# Altium integrated library Linear Technology Power Management Power Control.IntLib: 661 symbols (part 39 of 43)
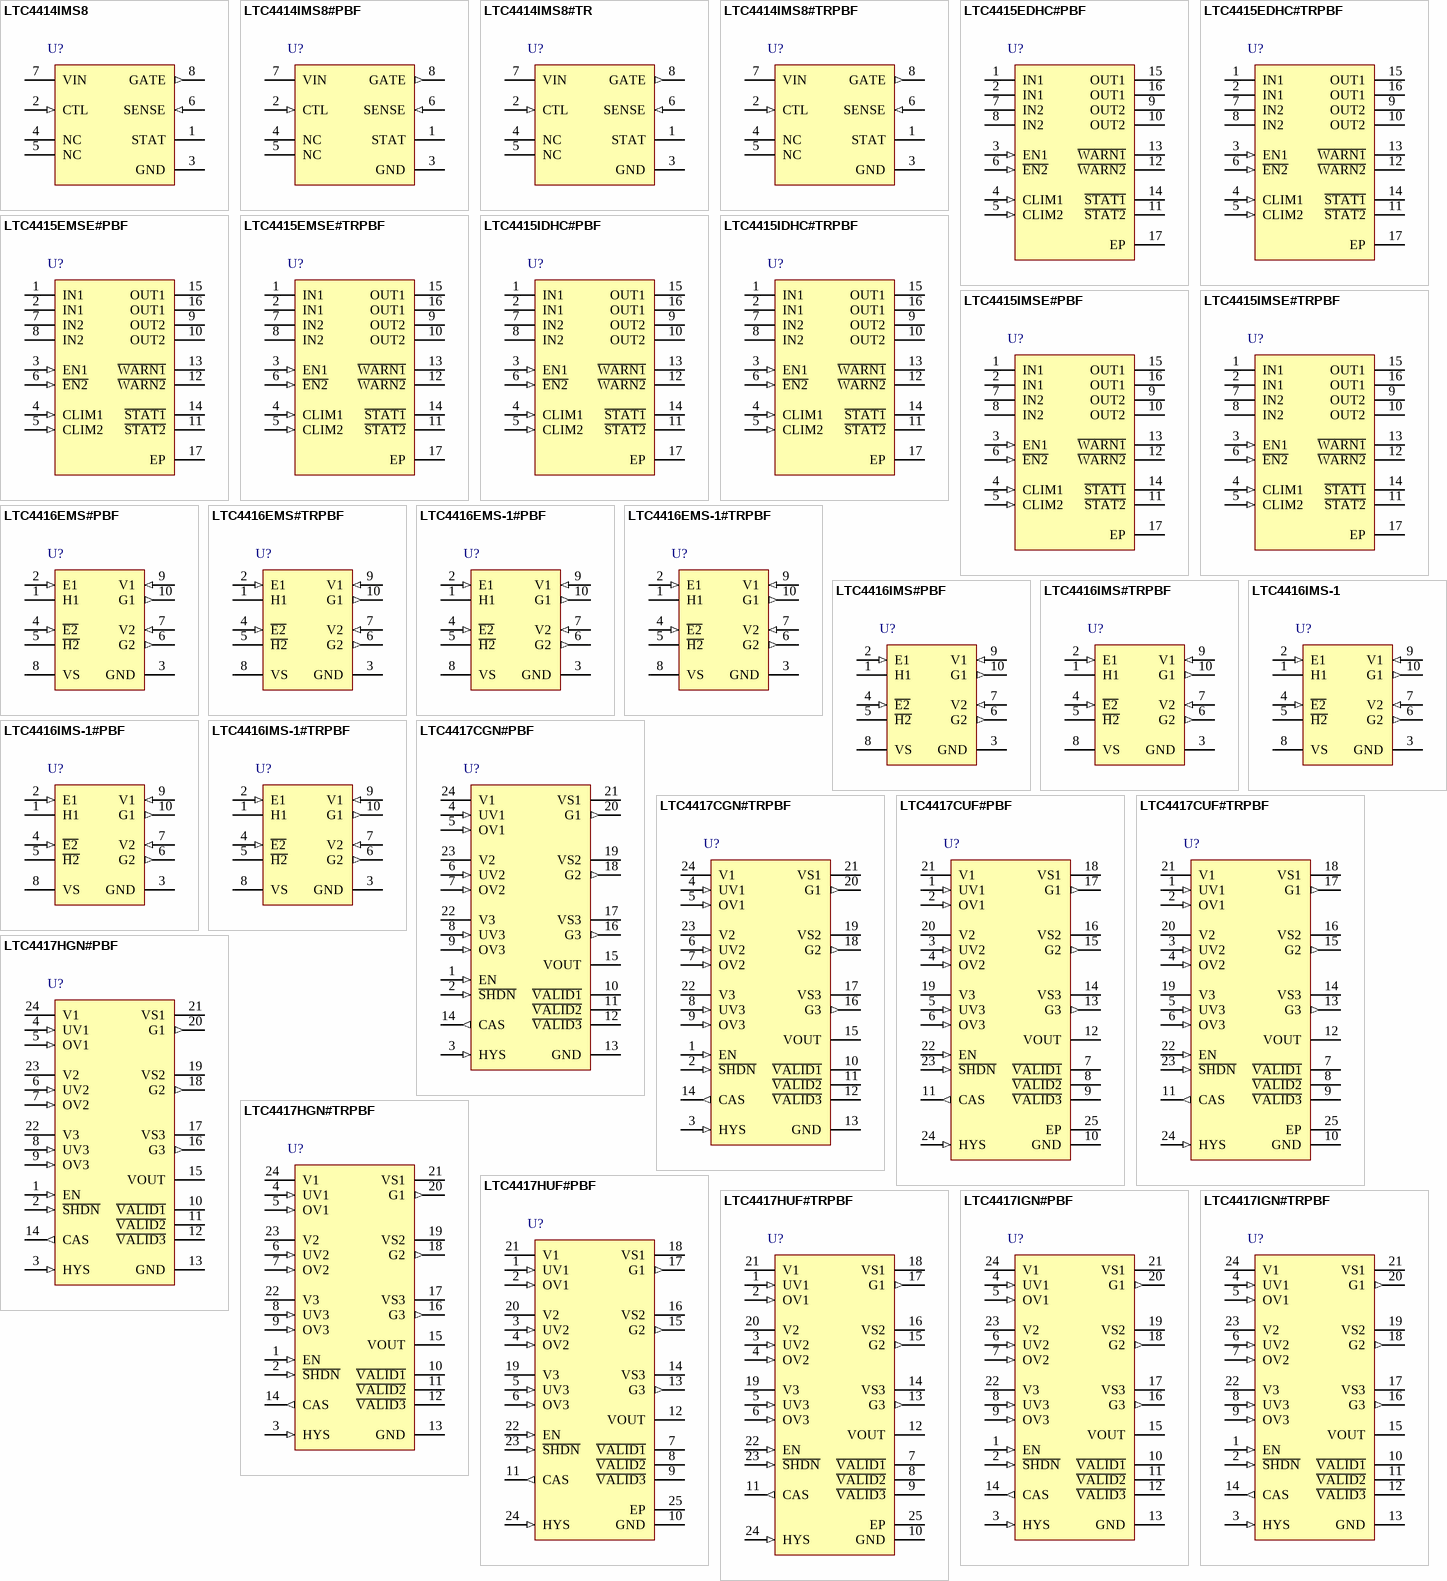
[diagram p57: symbols LTC4414IMS8 to LTC4417IGN#TRPBF]

## LTC4417HUF#TRPBF
designator U?
Prioritized PowerPath Controller, 2.5 to 36 V Vin, 24-pin QFN (UF-24), -40 to 125 degC, Pb-Free, Tape and Reel; Manufacturer: Linear Technology; PartNumber: LTC4417HUF#TRPBF; Ideal Diode: Triple, External, P-Channel; PackageVersion: Rev. B, 02/2012; PackageReference: UF24; PackageDescription: 24-Pin Plastic QFN, Body 4 x 4 mm, Pitch 0.5 mm; Supplier 1: Digi-Key; Supplier Part Number 1: LTC4417HUF#TRPBF-ND; Supplier 2: Newark; Supplier Part Number 2: 53W0559; Packing: Tape and Reel; RoHS: TRUE; Mounting Technology: Surface Mount; Code_JEDEC: MO-220; ComponentLink1Description: Manufacturer URL; ComponentLink1URL: http://www.linear.com/; ComponentLink2Description: Datasheet; ComponentLink2URL: http://cds.linear.com/docs/en/datasheet/4417f.pdf; ComponentLink3Description: Package Specification; ComponentLink3URL: http://cds.linear.com/docs/en/packaging/%28UF24%29%20QFN%2005-08-1697%20Rev%20B.pdf
footprint LT-UF-24_N (QFN, 24-Leads, Body 4.1x4.1mm, Pitch 0.5mm, Thermal Pad 2.45x2.45mm, IPC Medium Density)
footprint LT-UF-24_L (QFN, 24-Leads, Body 4.1x4.1mm, Pitch 0.5mm, Thermal Pad 2.45x2.45mm, IPC High Density)
footprint LT-UF-24_M (QFN, 24-Leads, Body 4.1x4.1mm, Pitch 0.5mm, Thermal Pad 2.45x2.45mm, IPC Low Density)
pins: 1 UV1 (in) "Undervoltage Comparator Inputs. Falling voltages below 1V signal an undervoltage event, invalidating the respective input supply channel. Connect UV1, UV2 and UV3 through a resistive divider between the respective V1, V2 and (See Datasheet)", 2 OV1 (in) "Overvoltage Comparator Inputs. Rising voltages above 1V signal an over voltage event, invalidating the respective input supply channel. Connect OV1, OV2 and OV3 to an external resistive divider from its respective V1, V2 and (See Datasheet)", 3 UV2 (in) "Undervoltage Comparator Inputs. Falling voltages below 1V signal an undervoltage event, invalidating the respective input supply channel. Connect UV1, UV2 and UV3 through a resistive divider between the respective V1, V2 and (See Datasheet)", 4 OV2 (in) "Overvoltage Comparator Inputs. Rising voltages above 1V signal an over voltage event, invalidating the respective input supply channel. Connect OV1, OV2 and OV3 to an external resistive divider from its respective V1, V2 and (See Datasheet)", 5 UV3 (in) "Undervoltage Comparator Inputs. Falling voltages below 1V signal an undervoltage event, invalidating the respective input supply channel. Connect UV1, UV2 and UV3 through a resistive divider between the respective V1, V2 and (See Datasheet)", 6 OV3 (in) "Overvoltage Comparator Inputs. Rising voltages above 1V signal an over voltage event, invalidating the respective input supply channel. Connect OV1, OV2 and OV3 to an external resistive divider from its respective V1, V2 and (See Datasheet)", 7 ~{VALID1} (oc) "Valid Channel Indicator Outputs. V\A\L\I\D\1\, V\A\L\I\D\2\ and V\A\L\I\D\3\ are high voltage open drain outputs that pull low when the respective V1, V2 and V3 are within the OV/UV window for at least 256ms and release when (See Datasheet)", 8 ~{VALID2} (oc) "Valid Channel Indicator Outputs. V\A\L\I\D\1\, V\A\L\I\D\2\ and V\A\L\I\D\3\ are high voltage open drain outputs that pull low when the respective V1, V2 and V3 are within the OV/UV window for at least 256ms and release when (See Datasheet)", 9 ~{VALID3} (oc) "Valid Channel Indicator Outputs. V\A\L\I\D\1\, V\A\L\I\D\2\ and V\A\L\I\D\3\ are high voltage open drain outputs that pull low when the respective V1, V2 and V3 are within the OV/UV window for at least 256ms and release when (See Datasheet)", 10 GND (power) "Device Ground.", 11 CAS (out) "Cascade Output. Digital output used for cascading multiple LTC4417s. Connect CAS to EN of another LTC4417 to increase the number of multiplexed input supplies. CAS is pulled up to the internal VLDO voltage by an internal (See Datasheet)", 12 VOUT (power) "Output Voltage Supply and Sense. VOUT is an output voltage sense pin used to prevent any input supply from connecting to the output if the output voltage is not at least 120mV below the input supply voltage. During normal (See Datasheet)", 13 G3 (out) "P-Channel MOSFET Gate Drive Outputs. G1, G2 and G3 are used to control external back-to-back Pchannel MOSFETs. When driven low, G1, G2 and G3 are clamped 6V below their corresponding VS1, VS2 and VS3. Connect G1, G2 and G3 (See Datasheet)", 14 VS3 (power) "External P-Channel MOSFET Common Source Connection. VS1, VS2 and VS3 supply the higher voltage of V1, V2 and V3 or VOUT to the gate drivers. Connect VS1, VS2 and VS3 to the respective common source connection of the (See Datasheet)", 15 G2 (out) "P-Channel MOSFET Gate Drive Outputs. G1, G2 and G3 are used to control external back-to-back Pchannel MOSFETs. When driven low, G1, G2 and G3 are clamped 6V below their corresponding VS1, VS2 and VS3. Connect G1, G2 and G3 (See Datasheet)", 16 VS2 (power) "External P-Channel MOSFET Common Source Connection. VS1, VS2 and VS3 supply the higher voltage of V1, V2 and V3 or VOUT to the gate drivers. Connect VS1, VS2 and VS3 to the respective common source connection of the (See Datasheet)", 17 G1 (out) "P-Channel MOSFET Gate Drive Outputs. G1, G2 and G3 are used to control external back-to-back Pchannel MOSFETs. When driven low, G1, G2 and G3 are clamped 6V below their corresponding VS1, VS2 and VS3. Connect G1, G2 and G3 (See Datasheet)", 18 VS1 (power) "External P-Channel MOSFET Common Source Connection. VS1, VS2 and VS3 supply the higher voltage of V1, V2 and V3 or VOUT to the gate drivers. Connect VS1, VS2 and VS3 to the respective common source connection of the (See Datasheet)", 19 V3 (power) "Third Priority Input Supply. When V3 is within its OV/UV window for 256ms, it is connected to VOUT via its external back-to-back P-channel MOSFETs only if V1 and V2 do not meet their OV/UV requirements. Connect to ground (See Datasheet)", 20 V2 (power) "Second Priority Input Supply. When V2 is within its OV/UV window for 256ms, it is connected to VOUT via its external back-to-back P-channel MOSFETs only if V1 does not meet its OV/UV requirements. Connect to ground when (See Datasheet)", 21 V1 (power) "Highest Priority Input Supply. When V1 is within its user defined OV/UV window for 256ms, it is connected to VOUT via its external back-to-back P-channel MOSFETs. Connect V1 to ground when channel is not used. See (See Datasheet)", 22 EN (in) "Channel Enable Input. EN is a high voltage input that allows the user to quickly connect and disconnect channels without resetting the OV/UV timers. When below 1V, all external back-to-back P-channel MOSFETs are driven off (See Datasheet)", 23 ~{SHDN} (in) "Shutdown Input. Driving S\H\D\N\ below 0.8V turns off all external back-to-back P-channel MOSFET devices, forces the LTC4417 into a low current state, and resets the 256ms timers used to validate V1, V2 and V3. Driving (See Datasheet)", 24 HYS (in) "OV/UV Comparator Hysteresis Input. Connecting HYS to ground sets a fixed 30mV hysteresis for the OV and UV comparators. Connecting a resistor, RHYS, between HYS and ground disables the internal 30mV hysteresis and sets a (See Datasheet)", 25 EP (power) "Exposed pad may be left open or connected to device ground."

## LTC4417IGN#PBF
designator U?
Prioritized PowerPath Controller, 2.5 to 36 V Vin, 24-pin SOP (GN-24), -40 to 85 degC, Pb-Free; Manufacturer: Linear Technology; PartNumber: LTC4417IGN#PBF; Ideal Diode: Triple, External, P-Channel; PackageVersion: Rev. B, 03/2012; PackageReference: GN24; PackageDescription: 24-Pin Plastic SSOP , Body 8.5 x 3.9 mm, Pitch 0.635 mm; Supplier 1: Digi-Key; Supplier Part Number 1: LTC4417IGN#PBF-ND; Supplier 2: Newark; Supplier Part Number 2: 53W0560; RoHS: TRUE; Mounting Technology: Surface Mount; ComponentLink1Description: Manufacturer URL; ComponentLink1URL: http://www.linear.com/; ComponentLink2Description: Datasheet; ComponentLink2URL: http://cds.linear.com/docs/en/datasheet/4417f.pdf; ComponentLink3Description: Package Specification; ComponentLink3URL: http://cds.linear.com/docs/en/packaging/05081641_B_GN24.pdf
footprint LT-GN-24_N (SOP, 24-Leads, Body 8.7x4mm, Pitch 0.635mm, IPC Medium Density)
footprint LT-GN-24_L (SOP, 24-Leads, Body 8.7x4mm, Pitch 0.635mm, IPC High Density)
footprint LT-GN-24_M (SOP, 24-Leads, Body 8.7x4mm, Pitch 0.635mm, IPC Low Density)
pins: 1 EN (in) "Channel Enable Input. EN is a high voltage input that allows the user to quickly connect and disconnect channels without resetting the OV/UV timers. When below 1V, all external back-to-back P-channel MOSFETs are driven off (See Datasheet)", 2 ~{SHDN} (in) "Shutdown Input. Driving S\H\D\N\ below 0.8V turns off all external back-to-back P-channel MOSFET devices, forces the LTC4417 into a low current state, and resets the 256ms timers used to validate V1, V2 and V3. Driving (See Datasheet)", 3 HYS (in) "OV/UV Comparator Hysteresis Input. Connecting HYS to ground sets a fixed 30mV hysteresis for the OV and UV comparators. Connecting a resistor, RHYS, between HYS and ground disables the internal 30mV hysteresis and sets a (See Datasheet)", 4 UV1 (in) "Undervoltage Comparator Inputs. Falling voltages below 1V signal an undervoltage event, invalidating the respective input supply channel. Connect UV1, UV2 and UV3 through a resistive divider between the respective V1, V2 and (See Datasheet)", 5 OV1 (in) "Overvoltage Comparator Inputs. Rising voltages above 1V signal an over voltage event, invalidating the respective input supply channel. Connect OV1, OV2 and OV3 to an external resistive divider from its respective V1, V2 and (See Datasheet)", 6 UV2 (in) "Undervoltage Comparator Inputs. Falling voltages below 1V signal an undervoltage event, invalidating the respective input supply channel. Connect UV1, UV2 and UV3 through a resistive divider between the respective V1, V2 and (See Datasheet)", 7 OV2 (in) "Overvoltage Comparator Inputs. Rising voltages above 1V signal an over voltage event, invalidating the respective input supply channel. Connect OV1, OV2 and OV3 to an external resistive divider from its respective V1, V2 and (See Datasheet)", 8 UV3 (in) "Undervoltage Comparator Inputs. Falling voltages below 1V signal an undervoltage event, invalidating the respective input supply channel. Connect UV1, UV2 and UV3 through a resistive divider between the respective V1, V2 and (See Datasheet)", 9 OV3 (in) "Overvoltage Comparator Inputs. Rising voltages above 1V signal an over voltage event, invalidating the respective input supply channel. Connect OV1, OV2 and OV3 to an external resistive divider from its respective V1, V2 and (See Datasheet)", 10 ~{VALID1} (oc) "Valid Channel Indicator Outputs. VA\L\I\D\1\, V\A\L\I\D\2\ and V\A\L\I\D\3\ are high voltage open drain outputs that pull low when the respective V1, V2 and V3 are within the OV/UV window for at least 256ms and release when (See Datasheet)", 11 ~{VALID2} (oc) "Valid Channel Indicator Outputs. V\A\L\I\D\1\, V\A\L\I\D\2\ and V\A\L\I\D\3\ are high voltage open drain outputs that pull low when the respective V1, V2 and V3 are within the OV/UV window for at least 256ms and release when (See Datasheet)", 12 ~{VALID3} (oc) "Valid Channel Indicator Outputs. V\A\L\I\D\1\, V\A\L\I\D\2\ and V\A\L\I\D\3\ are high voltage open drain outputs that pull low when the respective V1, V2 and V3 are within the OV/UV window for at least 256ms and release when (See Datasheet)", 13 GND (power) "Device Ground.", 14 CAS (out) "Cascade Output. Digital output used for cascading multiple LTC4417s. Connect CAS to EN of another LTC4417 to increase the number of multiplexed input supplies. CAS is pulled up to the internal VLDO voltage by an internal (See Datasheet)", 15 VOUT (power) "Output Voltage Supply and Sense. VOUT is an output voltage sense pin used to prevent any input supply from connecting to the output if the output voltage is not at least 120mV below the input supply voltage. During normal (See Datasheet)", 16 G3 (out) "P-Channel MOSFET Gate Drive Outputs. G1, G2 and G3 are used to control external back-to-back Pchannel MOSFETs. When driven low, G1, G2 and G3 are clamped 6V below their corresponding VS1, VS2 and VS3. Connect G1, G2 and G3 (See Datasheet)", 17 VS3 (power) "External P-Channel MOSFET Common Source Connection. VS1, VS2 and VS3 supply the higher voltage of V1, V2 and V3 or VOUT to the gate drivers. Connect VS1, VS2 and VS3 to the respective common source connection of the (See Datasheet)", 18 G2 (out) "P-Channel MOSFET Gate Drive Outputs. G1, G2 and G3 are used to control external back-to-back Pchannel MOSFETs. When driven low, G1, G2 and G3 are clamped 6V below their corresponding VS1, VS2 and VS3. Connect G1, G2 and G3 (See Datasheet)", 19 VS2 (power) "External P-Channel MOSFET Common Source Connection. VS1, VS2 and VS3 supply the higher voltage of V1, V2 and V3 or VOUT to the gate drivers. Connect VS1, VS2 and VS3 to the respective common source connection of the (See Datasheet)", 20 G1 (out) "P-Channel MOSFET Gate Drive Outputs. G1, G2 and G3 are used to control external back-to-back Pchannel MOSFETs. When driven low, G1, G2 and G3 are clamped 6V below their corresponding VS1, VS2 and VS3. Connect G1, G2 and G3 (See Datasheet)", 21 VS1 (power) "External P-Channel MOSFET Common Source Connection. VS1, VS2 and VS3 supply the higher voltage of V1, V2 and V3 or VOUT to the gate drivers. Connect VS1, VS2 and VS3 to the respective common source connection of the (See Datasheet)", 22 V3 (power) "Third Priority Input Supply. When V3 is within its OV/UV window for 256ms, it is connected to VOUT via its external back-to-back P-channel MOSFETs only if V1 and V2 do not meet their OV/UV requirements. Connect to ground (See Datasheet)", 23 V2 (power) "Second Priority Input Supply. When V2 is within its OV/UV window for 256ms, it is connected to VOUT via its external back-to-back P-channel MOSFETs only if V1 does not meet its OV/UV requirements. Connect to ground when (See Datasheet)", 24 V1 (power) "Highest Priority Input Supply. When V1 is within its user defined OV/UV window for 256ms, it is connected to VOUT via its external back-to-back P-channel MOSFETs. Connect V1 to ground when channel is not used. See (See Datasheet)"

## LTC4417IGN#TRPBF
designator U?
Prioritized PowerPath Controller, 2.5 to 36 V Vin, 24-pin SOP (GN-24), -40 to 85 degC, Pb-Free, Tape and Reel; Manufacturer: Linear Technology; PartNumber: LTC4417IGN#TRPBF; Ideal Diode: Triple, External, P-Channel; PackageVersion: Rev. B, 03/2012; PackageReference: GN24; PackageDescription: 24-Pin Plastic SSOP , Body 8.5 x 3.9 mm, Pitch 0.635 mm; Supplier 1: Digi-Key; Supplier Part Number 1: LTC4417IGN#TRPBF-ND; Supplier 2: Newark; Supplier Part Number 2: 53W0561; Packing: Tape and Reel; RoHS: TRUE; Mounting Technology: Surface Mount; ComponentLink1Description: Manufacturer URL; ComponentLink1URL: http://www.linear.com/; ComponentLink2Description: Datasheet; ComponentLink2URL: http://cds.linear.com/docs/en/datasheet/4417f.pdf; ComponentLink3Description: Package Specification; ComponentLink3URL: http://cds.linear.com/docs/en/packaging/05081641_B_GN24.pdf
footprint LT-GN-24_N (SOP, 24-Leads, Body 8.7x4mm, Pitch 0.635mm, IPC Medium Density)
footprint LT-GN-24_L (SOP, 24-Leads, Body 8.7x4mm, Pitch 0.635mm, IPC High Density)
footprint LT-GN-24_M (SOP, 24-Leads, Body 8.7x4mm, Pitch 0.635mm, IPC Low Density)
pins: 1 EN (in) "Channel Enable Input. EN is a high voltage input that allows the user to quickly connect and disconnect channels without resetting the OV/UV timers. When below 1V, all external back-to-back P-channel MOSFETs are driven off (See Datasheet)", 2 ~{SHDN} (in) "Shutdown Input. Driving S\H\D\N\ below 0.8V turns off all external back-to-back P-channel MOSFET devices, forces the LTC4417 into a low current state, and resets the 256ms timers used to validate V1, V2 and V3. Driving (See Datasheet)", 3 HYS (in) "OV/UV Comparator Hysteresis Input. Connecting HYS to ground sets a fixed 30mV hysteresis for the OV and UV comparators. Connecting a resistor, RHYS, between HYS and ground disables the internal 30mV hysteresis and sets a (See Datasheet)", 4 UV1 (in) "Undervoltage Comparator Inputs. Falling voltages below 1V signal an undervoltage event, invalidating the respective input supply channel. Connect UV1, UV2 and UV3 through a resistive divider between the respective V1, V2 and (See Datasheet)", 5 OV1 (in) "Overvoltage Comparator Inputs. Rising voltages above 1V signal an over voltage event, invalidating the respective input supply channel. Connect OV1, OV2 and OV3 to an external resistive divider from its respective V1, V2 and (See Datasheet)", 6 UV2 (in) "Undervoltage Comparator Inputs. Falling voltages below 1V signal an undervoltage event, invalidating the respective input supply channel. Connect UV1, UV2 and UV3 through a resistive divider between the respective V1, V2 and (See Datasheet)", 7 OV2 (in) "Overvoltage Comparator Inputs. Rising voltages above 1V signal an over voltage event, invalidating the respective input supply channel. Connect OV1, OV2 and OV3 to an external resistive divider from its respective V1, V2 and (See Datasheet)", 8 UV3 (in) "Undervoltage Comparator Inputs. Falling voltages below 1V signal an undervoltage event, invalidating the respective input supply channel. Connect UV1, UV2 and UV3 through a resistive divider between the respective V1, V2 and (See Datasheet)", 9 OV3 (in) "Overvoltage Comparator Inputs. Rising voltages above 1V signal an over voltage event, invalidating the respective input supply channel. Connect OV1, OV2 and OV3 to an external resistive divider from its respective V1, V2 and (See Datasheet)", 10 ~{VALID1} (oc) "Valid Channel Indicator Outputs. VA\L\I\D\1\, V\A\L\I\D\2\ and V\A\L\I\D\3\ are high voltage open drain outputs that pull low when the respective V1, V2 and V3 are within the OV/UV window for at least 256ms and release when (See Datasheet)", 11 ~{VALID2} (oc) "Valid Channel Indicator Outputs. V\A\L\I\D\1\, V\A\L\I\D\2\ and V\A\L\I\D\3\ are high voltage open drain outputs that pull low when the respective V1, V2 and V3 are within the OV/UV window for at least 256ms and release when (See Datasheet)", 12 ~{VALID3} (oc) "Valid Channel Indicator Outputs. V\A\L\I\D\1\, V\A\L\I\D\2\ and V\A\L\I\D\3\ are high voltage open drain outputs that pull low when the respective V1, V2 and V3 are within the OV/UV window for at least 256ms and release when (See Datasheet)", 13 GND (power) "Device Ground.", 14 CAS (out) "Cascade Output. Digital output used for cascading multiple LTC4417s. Connect CAS to EN of another LTC4417 to increase the number of multiplexed input supplies. CAS is pulled up to the internal VLDO voltage by an internal (See Datasheet)", 15 VOUT (power) "Output Voltage Supply and Sense. VOUT is an output voltage sense pin used to prevent any input supply from connecting to the output if the output voltage is not at least 120mV below the input supply voltage. During normal (See Datasheet)", 16 G3 (out) "P-Channel MOSFET Gate Drive Outputs. G1, G2 and G3 are used to control external back-to-back Pchannel MOSFETs. When driven low, G1, G2 and G3 are clamped 6V below their corresponding VS1, VS2 and VS3. Connect G1, G2 and G3 (See Datasheet)", 17 VS3 (power) "External P-Channel MOSFET Common Source Connection. VS1, VS2 and VS3 supply the higher voltage of V1, V2 and V3 or VOUT to the gate drivers. Connect VS1, VS2 and VS3 to the respective common source connection of the (See Datasheet)", 18 G2 (out) "P-Channel MOSFET Gate Drive Outputs. G1, G2 and G3 are used to control external back-to-back Pchannel MOSFETs. When driven low, G1, G2 and G3 are clamped 6V below their corresponding VS1, VS2 and VS3. Connect G1, G2 and G3 (See Datasheet)", 19 VS2 (power) "External P-Channel MOSFET Common Source Connection. VS1, VS2 and VS3 supply the higher voltage of V1, V2 and V3 or VOUT to the gate drivers. Connect VS1, VS2 and VS3 to the respective common source connection of the (See Datasheet)", 20 G1 (out) "P-Channel MOSFET Gate Drive Outputs. G1, G2 and G3 are used to control external back-to-back Pchannel MOSFETs. When driven low, G1, G2 and G3 are clamped 6V below their corresponding VS1, VS2 and VS3. Connect G1, G2 and G3 (See Datasheet)", 21 VS1 (power) "External P-Channel MOSFET Common Source Connection. VS1, VS2 and VS3 supply the higher voltage of V1, V2 and V3 or VOUT to the gate drivers. Connect VS1, VS2 and VS3 to the respective common source connection of the (See Datasheet)", 22 V3 (power) "Third Priority Input Supply. When V3 is within its OV/UV window for 256ms, it is connected to VOUT via its external back-to-back P-channel MOSFETs only if V1 and V2 do not meet their OV/UV requirements. Connect to ground (See Datasheet)", 23 V2 (power) "Second Priority Input Supply. When V2 is within its OV/UV window for 256ms, it is connected to VOUT via its external back-to-back P-channel MOSFETs only if V1 does not meet its OV/UV requirements. Connect to ground when (See Datasheet)", 24 V1 (power) "Highest Priority Input Supply. When V1 is within its user defined OV/UV window for 256ms, it is connected to VOUT via its external back-to-back P-channel MOSFETs. Connect V1 to ground when channel is not used. See (See Datasheet)"

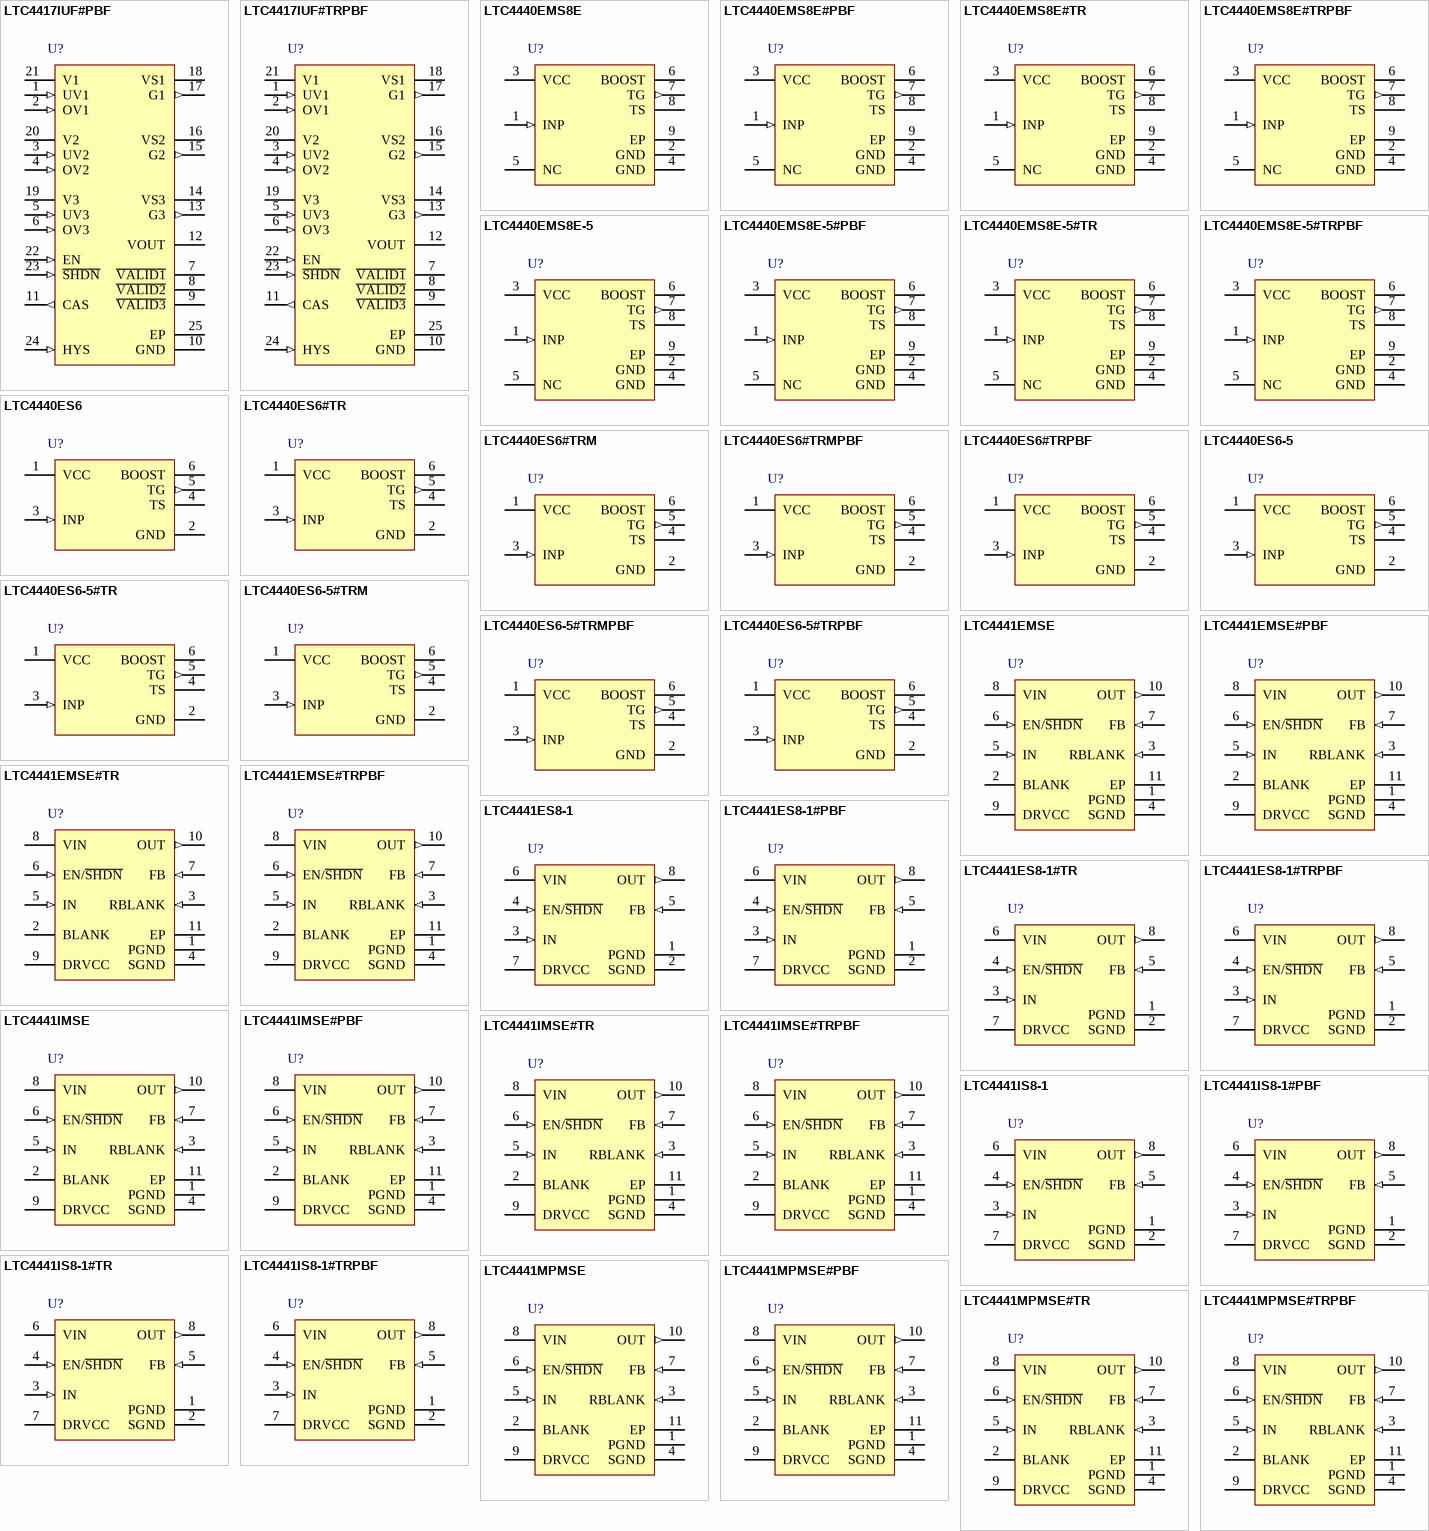
[diagram p18: symbols LTC4417IUF#PBF to LTC4441MPMSE#TRPBF]

## LTC4417IUF#PBF
designator U?
Prioritized PowerPath Controller, 2.5 to 36 V Vin, 24-pin QFN (UF-24), -40 to 85 degC, Pb-Free; Manufacturer: Linear Technology; PartNumber: LTC4417IUF#PBF; Ideal Diode: Triple, External, P-Channel; PackageVersion: Rev. B, 02/2012; PackageReference: UF24; PackageDescription: 24-Pin Plastic QFN, Body 4 x 4 mm, Pitch 0.5 mm; Supplier 1: Digi-Key; Supplier Part Number 1: LTC4417IUF#PBF-ND; Supplier 2: Newark; Supplier Part Number 2: 53W0562; RoHS: TRUE; Mounting Technology: Surface Mount; Code_JEDEC: MO-220; ComponentLink1Description: Manufacturer URL; ComponentLink1URL: http://www.linear.com/; ComponentLink2Description: Datasheet; ComponentLink2URL: http://cds.linear.com/docs/en/datasheet/4417f.pdf; ComponentLink3Description: Package Specification; ComponentLink3URL: http://cds.linear.com/docs/en/packaging/%28UF24%29%20QFN%2005-08-1697%20Rev%20B.pdf
footprint LT-UF-24_N (QFN, 24-Leads, Body 4.1x4.1mm, Pitch 0.5mm, Thermal Pad 2.45x2.45mm, IPC Medium Density)
footprint LT-UF-24_L (QFN, 24-Leads, Body 4.1x4.1mm, Pitch 0.5mm, Thermal Pad 2.45x2.45mm, IPC High Density)
footprint LT-UF-24_M (QFN, 24-Leads, Body 4.1x4.1mm, Pitch 0.5mm, Thermal Pad 2.45x2.45mm, IPC Low Density)
pins: 1 UV1 (in) "Undervoltage Comparator Inputs. Falling voltages below 1V signal an undervoltage event, invalidating the respective input supply channel. Connect UV1, UV2 and UV3 through a resistive divider between the respective V1, V2 and (See Datasheet)", 2 OV1 (in) "Overvoltage Comparator Inputs. Rising voltages above 1V signal an over voltage event, invalidating the respective input supply channel. Connect OV1, OV2 and OV3 to an external resistive divider from its respective V1, V2 and (See Datasheet)", 3 UV2 (in) "Undervoltage Comparator Inputs. Falling voltages below 1V signal an undervoltage event, invalidating the respective input supply channel. Connect UV1, UV2 and UV3 through a resistive divider between the respective V1, V2 and (See Datasheet)", 4 OV2 (in) "Overvoltage Comparator Inputs. Rising voltages above 1V signal an over voltage event, invalidating the respective input supply channel. Connect OV1, OV2 and OV3 to an external resistive divider from its respective V1, V2 and (See Datasheet)", 5 UV3 (in) "Undervoltage Comparator Inputs. Falling voltages below 1V signal an undervoltage event, invalidating the respective input supply channel. Connect UV1, UV2 and UV3 through a resistive divider between the respective V1, V2 and (See Datasheet)", 6 OV3 (in) "Overvoltage Comparator Inputs. Rising voltages above 1V signal an over voltage event, invalidating the respective input supply channel. Connect OV1, OV2 and OV3 to an external resistive divider from its respective V1, V2 and (See Datasheet)", 7 ~{VALID1} (oc) "Valid Channel Indicator Outputs. V\A\L\I\D\1\, V\A\L\I\D\2\ and V\A\L\I\D\3\ are high voltage open drain outputs that pull low when the respective V1, V2 and V3 are within the OV/UV window for at least 256ms and release when (See Datasheet)", 8 ~{VALID2} (oc) "Valid Channel Indicator Outputs. V\A\L\I\D\1\, V\A\L\I\D\2\ and V\A\L\I\D\3\ are high voltage open drain outputs that pull low when the respective V1, V2 and V3 are within the OV/UV window for at least 256ms and release when (See Datasheet)", 9 ~{VALID3} (oc) "Valid Channel Indicator Outputs. V\A\L\I\D\1\, V\A\L\I\D\2\ and V\A\L\I\D\3\ are high voltage open drain outputs that pull low when the respective V1, V2 and V3 are within the OV/UV window for at least 256ms and release when (See Datasheet)", 10 GND (power) "Device Ground.", 11 CAS (out) "Cascade Output. Digital output used for cascading multiple LTC4417s. Connect CAS to EN of another LTC4417 to increase the number of multiplexed input supplies. CAS is pulled up to the internal VLDO voltage by an internal (See Datasheet)", 12 VOUT (power) "Output Voltage Supply and Sense. VOUT is an output voltage sense pin used to prevent any input supply from connecting to the output if the output voltage is not at least 120mV below the input supply voltage. During normal (See Datasheet)", 13 G3 (out) "P-Channel MOSFET Gate Drive Outputs. G1, G2 and G3 are used to control external back-to-back Pchannel MOSFETs. When driven low, G1, G2 and G3 are clamped 6V below their corresponding VS1, VS2 and VS3. Connect G1, G2 and G3 (See Datasheet)", 14 VS3 (power) "External P-Channel MOSFET Common Source Connection. VS1, VS2 and VS3 supply the higher voltage of V1, V2 and V3 or VOUT to the gate drivers. Connect VS1, VS2 and VS3 to the respective common source connection of the (See Datasheet)", 15 G2 (out) "P-Channel MOSFET Gate Drive Outputs. G1, G2 and G3 are used to control external back-to-back Pchannel MOSFETs. When driven low, G1, G2 and G3 are clamped 6V below their corresponding VS1, VS2 and VS3. Connect G1, G2 and G3 (See Datasheet)", 16 VS2 (power) "External P-Channel MOSFET Common Source Connection. VS1, VS2 and VS3 supply the higher voltage of V1, V2 and V3 or VOUT to the gate drivers. Connect VS1, VS2 and VS3 to the respective common source connection of the (See Datasheet)", 17 G1 (out) "P-Channel MOSFET Gate Drive Outputs. G1, G2 and G3 are used to control external back-to-back Pchannel MOSFETs. When driven low, G1, G2 and G3 are clamped 6V below their corresponding VS1, VS2 and VS3. Connect G1, G2 and G3 (See Datasheet)", 18 VS1 (power) "External P-Channel MOSFET Common Source Connection. VS1, VS2 and VS3 supply the higher voltage of V1, V2 and V3 or VOUT to the gate drivers. Connect VS1, VS2 and VS3 to the respective common source connection of the (See Datasheet)", 19 V3 (power) "Third Priority Input Supply. When V3 is within its OV/UV window for 256ms, it is connected to VOUT via its external back-to-back P-channel MOSFETs only if V1 and V2 do not meet their OV/UV requirements. Connect to ground (See Datasheet)", 20 V2 (power) "Second Priority Input Supply. When V2 is within its OV/UV window for 256ms, it is connected to VOUT via its external back-to-back P-channel MOSFETs only if V1 does not meet its OV/UV requirements. Connect to ground when (See Datasheet)", 21 V1 (power) "Highest Priority Input Supply. When V1 is within its user defined OV/UV window for 256ms, it is connected to VOUT via its external back-to-back P-channel MOSFETs. Connect V1 to ground when channel is not used. See (See Datasheet)", 22 EN (in) "Channel Enable Input. EN is a high voltage input that allows the user to quickly connect and disconnect channels without resetting the OV/UV timers. When below 1V, all external back-to-back P-channel MOSFETs are driven off (See Datasheet)", 23 ~{SHDN} (in) "Shutdown Input. Driving S\H\D\N\ below 0.8V turns off all external back-to-back P-channel MOSFET devices, forces the LTC4417 into a low current state, and resets the 256ms timers used to validate V1, V2 and V3. Driving (See Datasheet)", 24 HYS (in) "OV/UV Comparator Hysteresis Input. Connecting HYS to ground sets a fixed 30mV hysteresis for the OV and UV comparators. Connecting a resistor, RHYS, between HYS and ground disables the internal 30mV hysteresis and sets a (See Datasheet)", 25 EP (power) "Exposed pad may be left open or connected to device ground."

## LTC4417IUF#TRPBF
designator U?
Prioritized PowerPath Controller, 2.5 to 36 V Vin, 24-pin QFN (UF-24), -40 to 85 degC, Pb-Free, Tape and Reel; Manufacturer: Linear Technology; PartNumber: LTC4417IUF#TRPBF; Ideal Diode: Triple, External, P-Channel; PackageVersion: Rev. B, 02/2012; PackageReference: UF24; PackageDescription: 24-Pin Plastic QFN, Body 4 x 4 mm, Pitch 0.5 mm; Supplier 1: Digi-Key; Supplier Part Number 1: LTC4417IUF#TRPBF-ND; Supplier 2: Newark; Supplier Part Number 2: 53W0563; Packing: Tape and Reel; RoHS: TRUE; Mounting Technology: Surface Mount; Code_JEDEC: MO-220; ComponentLink1Description: Manufacturer URL; ComponentLink1URL: http://www.linear.com/; ComponentLink2Description: Datasheet; ComponentLink2URL: http://cds.linear.com/docs/en/datasheet/4417f.pdf; ComponentLink3Description: Package Specification; ComponentLink3URL: http://cds.linear.com/docs/en/packaging/%28UF24%29%20QFN%2005-08-1697%20Rev%20B.pdf
footprint LT-UF-24_N (QFN, 24-Leads, Body 4.1x4.1mm, Pitch 0.5mm, Thermal Pad 2.45x2.45mm, IPC Medium Density)
footprint LT-UF-24_L (QFN, 24-Leads, Body 4.1x4.1mm, Pitch 0.5mm, Thermal Pad 2.45x2.45mm, IPC High Density)
footprint LT-UF-24_M (QFN, 24-Leads, Body 4.1x4.1mm, Pitch 0.5mm, Thermal Pad 2.45x2.45mm, IPC Low Density)
pins: 1 UV1 (in) "Undervoltage Comparator Inputs. Falling voltages below 1V signal an undervoltage event, invalidating the respective input supply channel. Connect UV1, UV2 and UV3 through a resistive divider between the respective V1, V2 and (See Datasheet)", 2 OV1 (in) "Overvoltage Comparator Inputs. Rising voltages above 1V signal an over voltage event, invalidating the respective input supply channel. Connect OV1, OV2 and OV3 to an external resistive divider from its respective V1, V2 and (See Datasheet)", 3 UV2 (in) "Undervoltage Comparator Inputs. Falling voltages below 1V signal an undervoltage event, invalidating the respective input supply channel. Connect UV1, UV2 and UV3 through a resistive divider between the respective V1, V2 and (See Datasheet)", 4 OV2 (in) "Overvoltage Comparator Inputs. Rising voltages above 1V signal an over voltage event, invalidating the respective input supply channel. Connect OV1, OV2 and OV3 to an external resistive divider from its respective V1, V2 and (See Datasheet)", 5 UV3 (in) "Undervoltage Comparator Inputs. Falling voltages below 1V signal an undervoltage event, invalidating the respective input supply channel. Connect UV1, UV2 and UV3 through a resistive divider between the respective V1, V2 and (See Datasheet)", 6 OV3 (in) "Overvoltage Comparator Inputs. Rising voltages above 1V signal an over voltage event, invalidating the respective input supply channel. Connect OV1, OV2 and OV3 to an external resistive divider from its respective V1, V2 and (See Datasheet)", 7 ~{VALID1} (oc) "Valid Channel Indicator Outputs. V\A\L\I\D\1\, V\A\L\I\D\2\ and V\A\L\I\D\3\ are high voltage open drain outputs that pull low when the respective V1, V2 and V3 are within the OV/UV window for at least 256ms and release when (See Datasheet)", 8 ~{VALID2} (oc) "Valid Channel Indicator Outputs. V\A\L\I\D\1\, V\A\L\I\D\2\ and V\A\L\I\D\3\ are high voltage open drain outputs that pull low when the respective V1, V2 and V3 are within the OV/UV window for at least 256ms and release when (See Datasheet)", 9 ~{VALID3} (oc) "Valid Channel Indicator Outputs. V\A\L\I\D\1\, V\A\L\I\D\2\ and V\A\L\I\D\3\ are high voltage open drain outputs that pull low when the respective V1, V2 and V3 are within the OV/UV window for at least 256ms and release when (See Datasheet)", 10 GND (power) "Device Ground.", 11 CAS (out) "Cascade Output. Digital output used for cascading multiple LTC4417s. Connect CAS to EN of another LTC4417 to increase the number of multiplexed input supplies. CAS is pulled up to the internal VLDO voltage by an internal (See Datasheet)", 12 VOUT (power) "Output Voltage Supply and Sense. VOUT is an output voltage sense pin used to prevent any input supply from connecting to the output if the output voltage is not at least 120mV below the input supply voltage. During normal (See Datasheet)", 13 G3 (out) "P-Channel MOSFET Gate Drive Outputs. G1, G2 and G3 are used to control external back-to-back Pchannel MOSFETs. When driven low, G1, G2 and G3 are clamped 6V below their corresponding VS1, VS2 and VS3. Connect G1, G2 and G3 (See Datasheet)", 14 VS3 (power) "External P-Channel MOSFET Common Source Connection. VS1, VS2 and VS3 supply the higher voltage of V1, V2 and V3 or VOUT to the gate drivers. Connect VS1, VS2 and VS3 to the respective common source connection of the (See Datasheet)", 15 G2 (out) "P-Channel MOSFET Gate Drive Outputs. G1, G2 and G3 are used to control external back-to-back Pchannel MOSFETs. When driven low, G1, G2 and G3 are clamped 6V below their corresponding VS1, VS2 and VS3. Connect G1, G2 and G3 (See Datasheet)", 16 VS2 (power) "External P-Channel MOSFET Common Source Connection. VS1, VS2 and VS3 supply the higher voltage of V1, V2 and V3 or VOUT to the gate drivers. Connect VS1, VS2 and VS3 to the respective common source connection of the (See Datasheet)", 17 G1 (out) "P-Channel MOSFET Gate Drive Outputs. G1, G2 and G3 are used to control external back-to-back Pchannel MOSFETs. When driven low, G1, G2 and G3 are clamped 6V below their corresponding VS1, VS2 and VS3. Connect G1, G2 and G3 (See Datasheet)", 18 VS1 (power) "External P-Channel MOSFET Common Source Connection. VS1, VS2 and VS3 supply the higher voltage of V1, V2 and V3 or VOUT to the gate drivers. Connect VS1, VS2 and VS3 to the respective common source connection of the (See Datasheet)", 19 V3 (power) "Third Priority Input Supply. When V3 is within its OV/UV window for 256ms, it is connected to VOUT via its external back-to-back P-channel MOSFETs only if V1 and V2 do not meet their OV/UV requirements. Connect to ground (See Datasheet)", 20 V2 (power) "Second Priority Input Supply. When V2 is within its OV/UV window for 256ms, it is connected to VOUT via its external back-to-back P-channel MOSFETs only if V1 does not meet its OV/UV requirements. Connect to ground when (See Datasheet)", 21 V1 (power) "Highest Priority Input Supply. When V1 is within its user defined OV/UV window for 256ms, it is connected to VOUT via its external back-to-back P-channel MOSFETs. Connect V1 to ground when channel is not used. See (See Datasheet)", 22 EN (in) "Channel Enable Input. EN is a high voltage input that allows the user to quickly connect and disconnect channels without resetting the OV/UV timers. When below 1V, all external back-to-back P-channel MOSFETs are driven off (See Datasheet)", 23 ~{SHDN} (in) "Shutdown Input. Driving S\H\D\N\ below 0.8V turns off all external back-to-back P-channel MOSFET devices, forces the LTC4417 into a low current state, and resets the 256ms timers used to validate V1, V2 and V3. Driving (See Datasheet)", 24 HYS (in) "OV/UV Comparator Hysteresis Input. Connecting HYS to ground sets a fixed 30mV hysteresis for the OV and UV comparators. Connecting a resistor, RHYS, between HYS and ground disables the internal 30mV hysteresis and sets a (See Datasheet)", 25 EP (power) "Exposed pad may be left open or connected to device ground."

## LTC4440EMS8E
designator U?
1.5 Ohm Pull-Down, 2.4 A Pull-Up Driver, 100 V Vin MAX, 8-pin SOP (MS8E-8), -40 to 85 degC; Manufacturer: Linear Technology; PartNumber: LTC4440EMS8E; PackageVersion: Rev. E; PackageReference: MS8E-8; PackageDescription: 8-Pin Plastic MSOP, Exposed Die Pad, Body 3 x 3 mm, Pitch 0.65 mm; Supplier 1: Digi-Key; Supplier Part Number 1: LTC4440EMS8E-ND; RoHS: FALSE; Mounting Technology: Surface Mount; ComponentLink1Description: Manufacturer URL; ComponentLink1URL: http://www.linear.com/; ComponentLink2Description: Datasheet; ComponentLink2URL: http://cds.linear.com/docs/en/datasheet/4440f.pdf; ComponentLink3Description: Package Specification; ComponentLink3URL: http://cds.linear.com/docs/en/datasheet/4070fc.pdf
footprint LT-MS8E-8-2060X1830TP_N (SOP, 8-Leads, Body 3.1x3.1mm, Pitch 0.65mm, Thermal Pad 2.162x1.932mm, IPC Medium Density)
footprint LT-MS8E-8-2060X1830TP_L (SOP, 8-Leads, Body 3.1x3.1mm, Pitch 0.65mm, Thermal Pad 2.162x1.932mm, IPC High Density)
footprint LT-MS8E-8-2060X1830TP_M (SOP, 8-Leads, Body 3.1x3.1mm, Pitch 0.65mm, Thermal Pad 2.162x1.932mm, IPC Low Density)
pins: 1 INP (in) "Input Signal. TTL/CMOS compatible input referenced to GND (Pin 2).", 2 GND (power) "Chip Ground.", 3 VCC (power) "Chip Supply. This pin powers the internal low side circuitry. A low ESR ceramic bypass capacitor should be tied between this pin and the GND pin (Pin 2).", 4 GND (power) "Chip Ground.", 5 NC "No Connect. No connection required. For convenience, this pin may be tied to Pin 6 (BOOST) on the application board.", 6 BOOST "High Side Bootstrapped Supply. An external capacitor should be tied between this pin and TS (Pin 8). Normally, a bootstrap diode is connected between VCC (Pin 3) and this pin. Voltage swing at this pin is from VCC - VD to (See Datasheet)", 7 TG (out) "High Current Gate Driver Output (Top Gate). This pin swings between TS and BOOST.", 8 TS, 9 EP (power) "Ground. Must be electrically connected to Pins 2 and 4 and soldered to PCB ground for optimum thermal performance."

## LTC4440EMS8E#PBF
designator U?
1.5 Ohm Pull-Down, 2.4 A Pull-Up Driver, 100 V Vin MAX, 8-pin SOP (MS8E-8), -40 to 85 degC, Pb-Free; Manufacturer: Linear Technology; PartNumber: LTC4440EMS8E#PBF; PackageVersion: Rev. E; PackageReference: MS8E-8; PackageDescription: 8-Pin Plastic MSOP, Exposed Die Pad, Body 3 x 3 mm, Pitch 0.65 mm; Supplier 1: Digi-Key; Supplier Part Number 1: LTC4440EMS8E#PBF-ND; Supplier 2: Newark; Supplier Part Number 2: 56M9553; RoHS: TRUE; Mounting Technology: Surface Mount; ComponentLink1Description: Manufacturer URL; ComponentLink1URL: http://www.linear.com/; ComponentLink2Description: Datasheet; ComponentLink2URL: http://cds.linear.com/docs/en/datasheet/4440f.pdf; ComponentLink3Description: Package Specification; ComponentLink3URL: http://cds.linear.com/docs/en/datasheet/4070fc.pdf
footprint LT-MS8E-8-2060X1830TP_N (SOP, 8-Leads, Body 3.1x3.1mm, Pitch 0.65mm, Thermal Pad 2.162x1.932mm, IPC Medium Density)
footprint LT-MS8E-8-2060X1830TP_L (SOP, 8-Leads, Body 3.1x3.1mm, Pitch 0.65mm, Thermal Pad 2.162x1.932mm, IPC High Density)
footprint LT-MS8E-8-2060X1830TP_M (SOP, 8-Leads, Body 3.1x3.1mm, Pitch 0.65mm, Thermal Pad 2.162x1.932mm, IPC Low Density)
pins: 1 INP (in) "Input Signal. TTL/CMOS compatible input referenced to GND (Pin 2).", 2 GND (power) "Chip Ground.", 3 VCC (power) "Chip Supply. This pin powers the internal low side circuitry. A low ESR ceramic bypass capacitor should be tied between this pin and the GND pin (Pin 2).", 4 GND (power) "Chip Ground.", 5 NC "No Connect. No connection required. For convenience, this pin may be tied to Pin 6 (BOOST) on the application board.", 6 BOOST "High Side Bootstrapped Supply. An external capacitor should be tied between this pin and TS (Pin 8). Normally, a bootstrap diode is connected between VCC (Pin 3) and this pin. Voltage swing at this pin is from VCC - VD to (See Datasheet)", 7 TG (out) "High Current Gate Driver Output (Top Gate). This pin swings between TS and BOOST.", 8 TS, 9 EP (power) "Ground. Must be electrically connected to Pins 2 and 4 and soldered to PCB ground for optimum thermal performance."

## LTC4440EMS8E#TR
designator U?
1.5 Ohm Pull-Down, 2.4 A Pull-Up Driver, 100 V Vin MAX, 8-pin SOP (MS8E-8), -40 to 85 degC, Tape and Reel; Manufacturer: Linear Technology; PartNumber: LTC4440EMS8E#TR; PackageVersion: Rev. E; PackageReference: MS8E-8; PackageDescription: 8-Pin Plastic MSOP, Exposed Die Pad, Body 3 x 3 mm, Pitch 0.65 mm; Supplier 1: Digi-Key; Supplier Part Number 1: LTC4440EMS8E#TR-ND; Packing: Tape and Reel; RoHS: FALSE; Mounting Technology: Surface Mount; ComponentLink1Description: Manufacturer URL; ComponentLink1URL: http://www.linear.com/; ComponentLink2Description: Datasheet; ComponentLink2URL: http://cds.linear.com/docs/en/datasheet/4440f.pdf; ComponentLink3Description: Package Specification; ComponentLink3URL: http://cds.linear.com/docs/en/datasheet/4070fc.pdf
footprint LT-MS8E-8-2060X1830TP_N (SOP, 8-Leads, Body 3.1x3.1mm, Pitch 0.65mm, Thermal Pad 2.162x1.932mm, IPC Medium Density)
footprint LT-MS8E-8-2060X1830TP_L (SOP, 8-Leads, Body 3.1x3.1mm, Pitch 0.65mm, Thermal Pad 2.162x1.932mm, IPC High Density)
footprint LT-MS8E-8-2060X1830TP_M (SOP, 8-Leads, Body 3.1x3.1mm, Pitch 0.65mm, Thermal Pad 2.162x1.932mm, IPC Low Density)
pins: 1 INP (in) "Input Signal. TTL/CMOS compatible input referenced to GND (Pin 2).", 2 GND (power) "Chip Ground.", 3 VCC (power) "Chip Supply. This pin powers the internal low side circuitry. A low ESR ceramic bypass capacitor should be tied between this pin and the GND pin (Pin 2).", 4 GND (power) "Chip Ground.", 5 NC "No Connect. No connection required. For convenience, this pin may be tied to Pin 6 (BOOST) on the application board.", 6 BOOST "High Side Bootstrapped Supply. An external capacitor should be tied between this pin and TS (Pin 8). Normally, a bootstrap diode is connected between VCC (Pin 3) and this pin. Voltage swing at this pin is from VCC - VD to (See Datasheet)", 7 TG (out) "High Current Gate Driver Output (Top Gate). This pin swings between TS and BOOST.", 8 TS, 9 EP (power) "Ground. Must be electrically connected to Pins 2 and 4 and soldered to PCB ground for optimum thermal performance."

## LTC4440EMS8E#TRPBF
designator U?
1.5 Ohm Pull-Down, 2.4 A Pull-Up Driver, 100 V Vin MAX, 8-pin SOP (MS8E-8), -40 to 85 degC, Pb-Free, Tape and Reel; Manufacturer: Linear Technology; PartNumber: LTC4440EMS8E#TRPBF; PackageVersion: Rev. E; PackageReference: MS8E-8; PackageDescription: 8-Pin Plastic MSOP, Exposed Die Pad, Body 3 x 3 mm, Pitch 0.65 mm; Supplier 1: Digi-Key; Supplier Part Number 1: LTC4440EMS8E#TRPBF-ND; Packing: Tape and Reel; RoHS: TRUE; Mounting Technology: Surface Mount; ComponentLink1Description: Manufacturer URL; ComponentLink1URL: http://www.linear.com/; ComponentLink2Description: Datasheet; ComponentLink2URL: http://cds.linear.com/docs/en/datasheet/4440f.pdf; ComponentLink3Description: Package Specification; ComponentLink3URL: http://cds.linear.com/docs/en/datasheet/4070fc.pdf
footprint LT-MS8E-8-2060X1830TP_N (SOP, 8-Leads, Body 3.1x3.1mm, Pitch 0.65mm, Thermal Pad 2.162x1.932mm, IPC Medium Density)
footprint LT-MS8E-8-2060X1830TP_L (SOP, 8-Leads, Body 3.1x3.1mm, Pitch 0.65mm, Thermal Pad 2.162x1.932mm, IPC High Density)
footprint LT-MS8E-8-2060X1830TP_M (SOP, 8-Leads, Body 3.1x3.1mm, Pitch 0.65mm, Thermal Pad 2.162x1.932mm, IPC Low Density)
pins: 1 INP (in) "Input Signal. TTL/CMOS compatible input referenced to GND (Pin 2).", 2 GND (power) "Chip Ground.", 3 VCC (power) "Chip Supply. This pin powers the internal low side circuitry. A low ESR ceramic bypass capacitor should be tied between this pin and the GND pin (Pin 2).", 4 GND (power) "Chip Ground.", 5 NC "No Connect. No connection required. For convenience, this pin may be tied to Pin 6 (BOOST) on the application board.", 6 BOOST "High Side Bootstrapped Supply. An external capacitor should be tied between this pin and TS (Pin 8). Normally, a bootstrap diode is connected between VCC (Pin 3) and this pin. Voltage swing at this pin is from VCC - VD to (See Datasheet)", 7 TG (out) "High Current Gate Driver Output (Top Gate). This pin swings between TS and BOOST.", 8 TS, 9 EP (power) "Ground. Must be electrically connected to Pins 2 and 4 and soldered to PCB ground for optimum thermal performance."

## LTC4440EMS8E-5
designator U?
Optimized for Logic Level FETs, 1.85 Ohm Pull-Down, 1.1 A Pull-Up Driver, 80 V Vin MAX, 8-pin SOP (MS8E-8), -40 to 85 degC; Manufacturer: Linear Technology; PartNumber: LTC4440EMS8E-5; DatasheetVersion: Rev. A; PackageVersion: Rev. E; PackageReference: MS8E-8; PackageDescription: 8-Pin Plastic MSOP, Exposed Die Pad, Body 3 x 3 mm, Pitch 0.65 mm; Supplier 1: Newark; Supplier Part Number 1: 56M9549; RoHS: FALSE; Mounting Technology: Surface Mount; ComponentLink1Description: Manufacturer URL; ComponentLink1URL: http://www.linear.com/; ComponentLink2Description: Datasheet; ComponentLink2URL: http://cds.linear.com/docs/en/datasheet/44405fa.pdf; ComponentLink3Description: Package Specification; ComponentLink3URL: http://cds.linear.com/docs/en/datasheet/4070fc.pdf
footprint LT-MS8E-8-2060X1830TP_N (SOP, 8-Leads, Body 3.1x3.1mm, Pitch 0.65mm, Thermal Pad 2.162x1.932mm, IPC Medium Density)
footprint LT-MS8E-8-2060X1830TP_L (SOP, 8-Leads, Body 3.1x3.1mm, Pitch 0.65mm, Thermal Pad 2.162x1.932mm, IPC High Density)
footprint LT-MS8E-8-2060X1830TP_M (SOP, 8-Leads, Body 3.1x3.1mm, Pitch 0.65mm, Thermal Pad 2.162x1.932mm, IPC Low Density)
pins: 1 INP (in) "Input Signal. TTL/CMOS compatible input referenced to GND (Pin 2).", 2 GND (power) "Chip Ground.", 3 VCC (power) "Chip Supply. This pin powers the internal low side circuitry. A low ESR ceramic bypass capacitor should be tied between this pin and the GND pin (Pin 2).", 4 GND (power) "Chip Ground.", 5 NC "No Connect. No connection required. For convenience, this pin may be tied to Pin 6 (BOOST) on the application board.", 6 BOOST "High Side Bootstrapped Supply. An external capacitor should be tied between this pin and TS (Pin 8). Normally, a bootstrap diode is connected between VCC (Pin 3) and this pin. Voltage swing at this pin is from VCC - VD to (See Datasheet)", 7 TG (out) "High Current Gate Driver Output (Top Gate). This pin swings between TS and BOOST.", 8 TS, 9 EP (power) "Ground. Must be electrically connected to Pins 2 and 4 and soldered to PCB ground for optimum thermal performance."

## LTC4440EMS8E-5#PBF
designator U?
Optimized for Logic Level FETs, 1.85 Ohm Pull-Down, 1.1 A Pull-Up Driver, 80 V Vin MAX, 8-pin SOP (MS8E-8), -40 to 85 degC, Pb-Free; Manufacturer: Linear Technology; PartNumber: LTC4440EMS8E-5#PBF; DatasheetVersion: Rev. A; PackageVersion: Rev. E; PackageReference: MS8E-8; PackageDescription: 8-Pin Plastic MSOP, Exposed Die Pad, Body 3 x 3 mm, Pitch 0.65 mm; Supplier 1: Digi-Key; Supplier Part Number 1: LTC4440EMS8E-5#PBF-ND; Supplier 2: Newark; Supplier Part Number 2: 56M9550; RoHS: TRUE; Mounting Technology: Surface Mount; ComponentLink1Description: Manufacturer URL; ComponentLink1URL: http://www.linear.com/; ComponentLink2Description: Datasheet; ComponentLink2URL: http://cds.linear.com/docs/en/datasheet/44405fa.pdf; ComponentLink3Description: Package Specification; ComponentLink3URL: http://cds.linear.com/docs/en/datasheet/4070fc.pdf
footprint LT-MS8E-8-2060X1830TP_N (SOP, 8-Leads, Body 3.1x3.1mm, Pitch 0.65mm, Thermal Pad 2.162x1.932mm, IPC Medium Density)
footprint LT-MS8E-8-2060X1830TP_L (SOP, 8-Leads, Body 3.1x3.1mm, Pitch 0.65mm, Thermal Pad 2.162x1.932mm, IPC High Density)
footprint LT-MS8E-8-2060X1830TP_M (SOP, 8-Leads, Body 3.1x3.1mm, Pitch 0.65mm, Thermal Pad 2.162x1.932mm, IPC Low Density)
pins: 1 INP (in) "Input Signal. TTL/CMOS compatible input referenced to GND (Pin 2).", 2 GND (power) "Chip Ground.", 3 VCC (power) "Chip Supply. This pin powers the internal low side circuitry. A low ESR ceramic bypass capacitor should be tied between this pin and the GND pin (Pin 2).", 4 GND (power) "Chip Ground.", 5 NC "No Connect. No connection required. For convenience, this pin may be tied to Pin 6 (BOOST) on the application board.", 6 BOOST "High Side Bootstrapped Supply. An external capacitor should be tied between this pin and TS (Pin 8). Normally, a bootstrap diode is connected between VCC (Pin 3) and this pin. Voltage swing at this pin is from VCC - VD to (See Datasheet)", 7 TG (out) "High Current Gate Driver Output (Top Gate). This pin swings between TS and BOOST.", 8 TS, 9 EP (power) "Ground. Must be electrically connected to Pins 2 and 4 and soldered to PCB ground for optimum thermal performance."